# EAGLE library part UJ31-CH-G2-SMT-TR (library UJ31-CH-G2-SMT-TR - USB C Jack)
USB Connectors USB jack 3.1 C type 24pin Horz SMT Source: Datasheet <https://www.arrow.com/en/products/uj31-ch-g2-smt-tr/cui-devices>
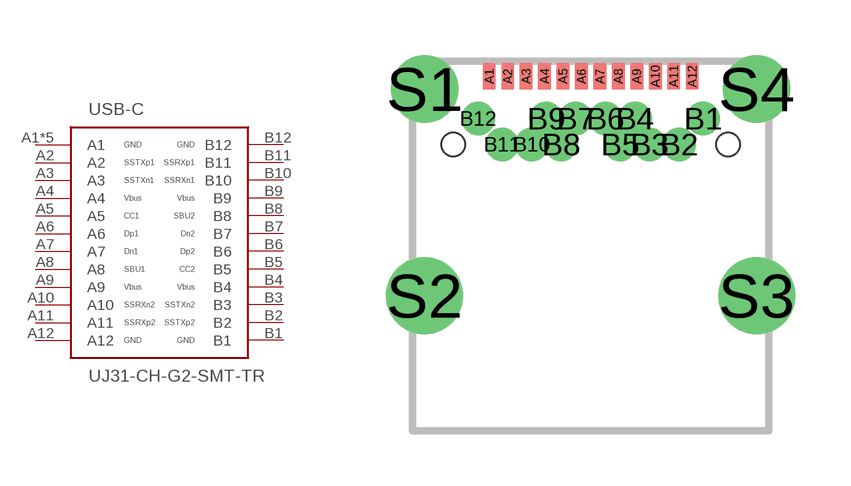
[diagram p0: symbol with the pads of UJ31CHG2SMTTR; footprint UJ31CHG2SMTTR]

Designator prefix USB-C

## UJ31-CH-G2-SMT-TR (DESCRIPTION: USB Connectors USB jack 3.1 C type 24pin Horz SMT; HEIGHT: 4.66mm; MANUFACTURER_NAME: CUI Inc.; MANUFACTURER_PART_NUMBER: UJ31-CH-G2-SMT-TR; MOUSER_PART_NUMBER: 490-UJ31-CH-G2SMT-TR; MOUSER_PRICE-STOCK: https://www.mouser.co.uk/ProductDetail/CUI-Devices/UJ31-CH-G2-SMT-TR?qs=W0yvOO0ixfGEsh2EYrPgIQ%3D%3D)  [UJ31CHG2SMTTR]
A1  A1  pwr
A2  A2
A3  A3
A4  A4  pwr
A5  A5
A6  A6
A7  A7
A8  A8
A9  A9  pwr
A10  A10
A11  A11
A12  A12  pwr
B1  B1  pwr
B2  B2
B3  B3
B4  B4  pwr
B5  B5  pwr
B6  B6
B7  B7
B8  B8
B9  B9  pwr
B10  B10
B11  B11
B12  B12  pwr
S1  A1  pwr
S2  A1  pwr
S3  A1  pwr
S4  A1  pwr

## Footprint UJ31CHG2SMTTR (pad centres in mm)
UJ31-CH-G2-SMT-TR-1
smd 0.35 x 0.7: A1 -2.75,5.95; A2 -2.25,5.95; A3 -1.75,5.95; A4 -1.25,5.95; A5 -0.75,5.95; A6 -0.25,5.95; A7 0.25,5.95; A8 0.75,5.95; A9 1.25,5.95; A10 1.75,5.95; A11 2.25,5.95; A12 2.75,5.95
drill 0.4 pad 0.6: B1 3.05,4.8; B2 2.4,4.1; B3 1.6,4.1; B4 1.2,4.8; B5 0.8,4.1; B6 0.4,4.8; B7 -0.4,4.8; B8 -0.8,4.1; B9 -1.2,4.8; B10 -1.6,4.1; B11 -2.4,4.1; B12 -3.05,4.8
drill 1.22 pad 1.815: S1 -4.5,5.6; S4 4.5,5.6
drill 1.393 pad 2.085: S2 -4.5,0; S3 4.5,0
hole 0.65 at 3.725,4.1
hole 0.65 at -3.725,4.1